# EAGLE library part 1PS88SB82 (library nxp_60)
15 V, 30 mA low Cd Schottky barrier diode Epitaxial low capacitance Schottky barrier diodes encapsulated in very small SMD plastic packages. AAL Eindhoven MK
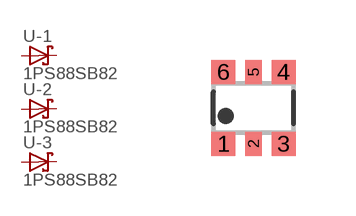
[diagram p101: symbol with the pads of SOT363; footprint SOT363]

Designator prefix -; gates -1=DIODE_SCHOTTKY -2=DIODE_SCHOTTKY -3=DIODE_SCHOTTKY

## 1PS88SB82  [SOT363]
1  -1:A  pas
2  -2:A  pas
3  -3:A  pas
4  -3:K  pas
5  -2:K  pas
6  -1:K  pas

## Footprint SOT363 (pad centres in mm)
SOT363 Plastic surface-mounted package; 6 leads JEDEC: -- IEC: -- JEITA: SC-88
smd 0.6 x 0.6: 1 -0.75,-0.9; 3 0.75,-0.9; 4 0.75,0.9; 6 -0.75,0.9
smd 0.4 x 0.6: 2 0,-0.9; 5 0,0.9